# Altium footprint library PCB - OPTOISOLATOR - ONSEMI PDIP-6 646BY.PcbLib: 1 footprints
Each footprint in its own frame and in the unit in brackets; x right, y up, seen from the top. Pads: shape width x height; smd on the part's side, far side on the other; paste and mask are expansions set on the pad; w line width, h text height; cw(c..) or ccw(c..) is an arc to the next point about the centre after c.
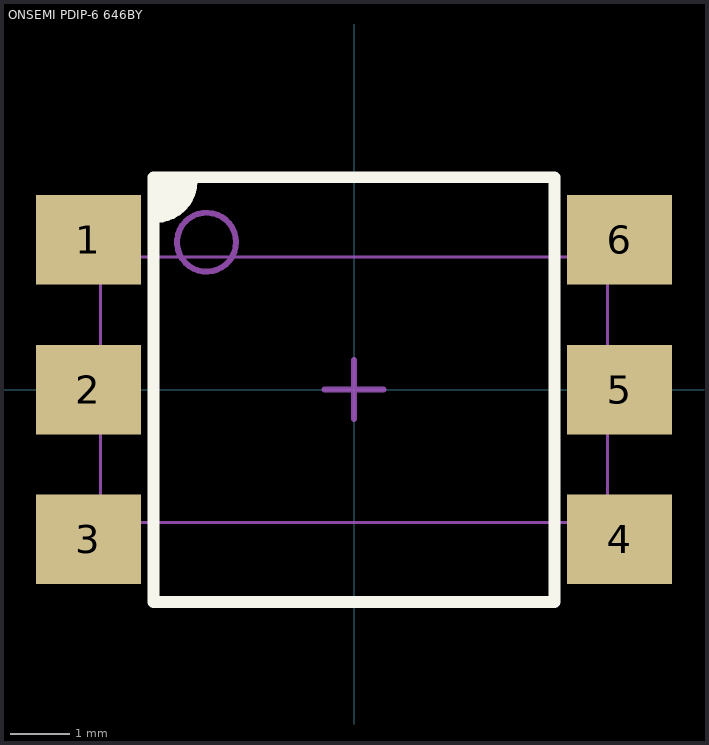
[diagram p0: the footprint, top view; thin cyan lines are the x and y axes]

## ONSEMI PDIP-6 646BY [mm] "PDIP, 6-Leads, Body 8.51x6.35mm, Pitch 2.54mm"
height 2.49
pads (6):
  rect 1.78x1.52 smd: 1(-4.505,2.54) 2(-4.505,0) 3(-4.505,-2.54) 4(4.505,-2.54) 5(4.505,0) 6(4.505,2.54)
Top Overlay:
  region: -3.354,3.53 -2.754,3.53 -2.754,3.41 -2.846,3.19 -3.014,3.021 -3.235,2.93 -3.354,2.93
  lines w0.2: -3.354,2.93 ccw(c-3.354,3.53) -2.754,3.53 ; -3.4,-3.6 -3.4,3.6 3.4,3.6 3.4,-3.6 -3.4,-3.6
  text "." at -4.7,3.8 h5
Mechanical 9:
  lines w0.1: -0.5,0 0.5,0 ; 0,-0.5 0,0.5
Top Assembly:
  circle w0.1: c-2.5,2.5 r0.5
  lines w0.1: -3.4,-3.6 3.4,-3.6 3.4,3.6 -3.4,3.6 -3.4,-3.6
Top Courtyard:
  lines w0.05: -4.3,-2.25 4.3,-2.25 4.3,2.25 -4.3,2.25 -4.3,-2.25
3D body "DIP-6-SMD.step": height 3.71, standoff 0, extent -4.9,-3.65 4.9,3.6